# Altium footprint library CAPPRD800W80D1650H2200.PcbLib: 1 footprints
Each footprint in its own frame and in the unit in brackets; x right, y up, seen from the top. Pads: shape width x height; smd on the part's side, far side on the other; paste and mask are expansions set on the pad; w line width, h text height; cw(c..) or ccw(c..) is an arc to the next point about the centre after c.
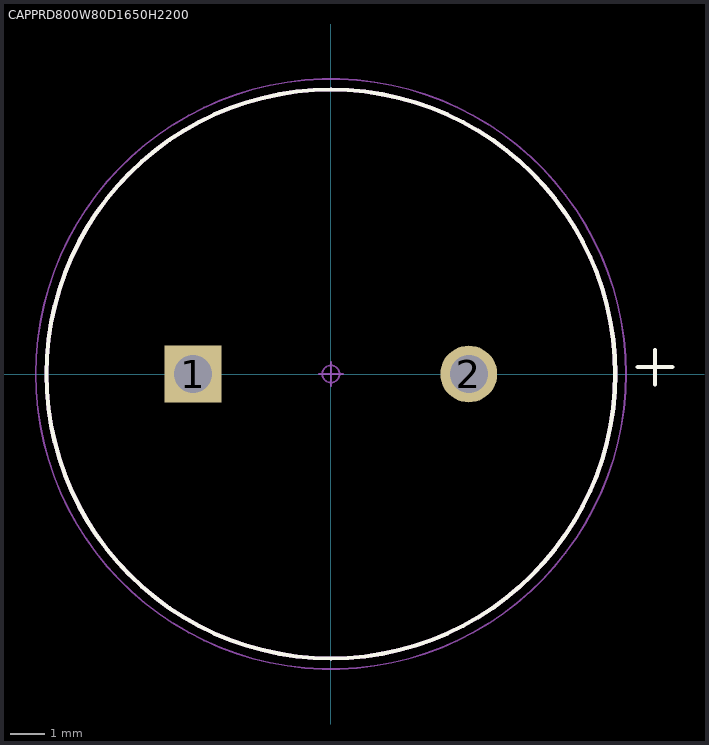
[diagram p0: the footprint, top view; thin cyan lines are the x and y axes]

## CAPPRD800W80D1650H2200 [mm] "Capacitor, Polarized, Radial (Electrolytic); 8.00 mm pitch X 16.50 mm dia. X 22.00 mm H body"
height 22
pads (2):
  rect 1.65x1.65 / inner round 1.65 / far side rect 1.65x1.65 hole 1.1 paste-2539.97: 1(-4,0)
  round 1.65 hole 1.1 paste-2539.97: 2(4,0)
Top Overlay:
  circle w0.12: c0,0 r8.25
  lines w0.12: 8.9,0.2 9.9,0.2 ; 9.4,-0.3 9.4,0.7
Mechanical 11:
  circle w0.12: c0,0 r8.25
Mechanical 12:
  circle w0.025: c0,0 r8.25
  circle w0.025: c4,0 r0.45
  circle w0.025: c-4,0 r0.45
Mechanical 15:
  circle w0.05: c0,0 r0.25
  circle w0.05: c0,0 r8.56
  lines w0.05: -0.35,0 0.35,0 ; 0,-0.35 0,0.35
Mechanical 16:
  text ".Designator" at 0,0 h1.2
3D body "CAPPRD800W80D1650H2200.STEP": height 22.01, standoff -2, extent -8.26,-8.25 8.241,8.25